# Altium footprint library TiLib.PcbLib: 5 footprints
Each footprint in its own frame and in the unit in brackets; x right, y up, seen from the top. Pads: shape width x height; smd on the part's side, far side on the other; paste and mask are expansions set on the pad; w line width, h text height; cw(c..) or ccw(c..) is an arc to the next point about the centre after c.
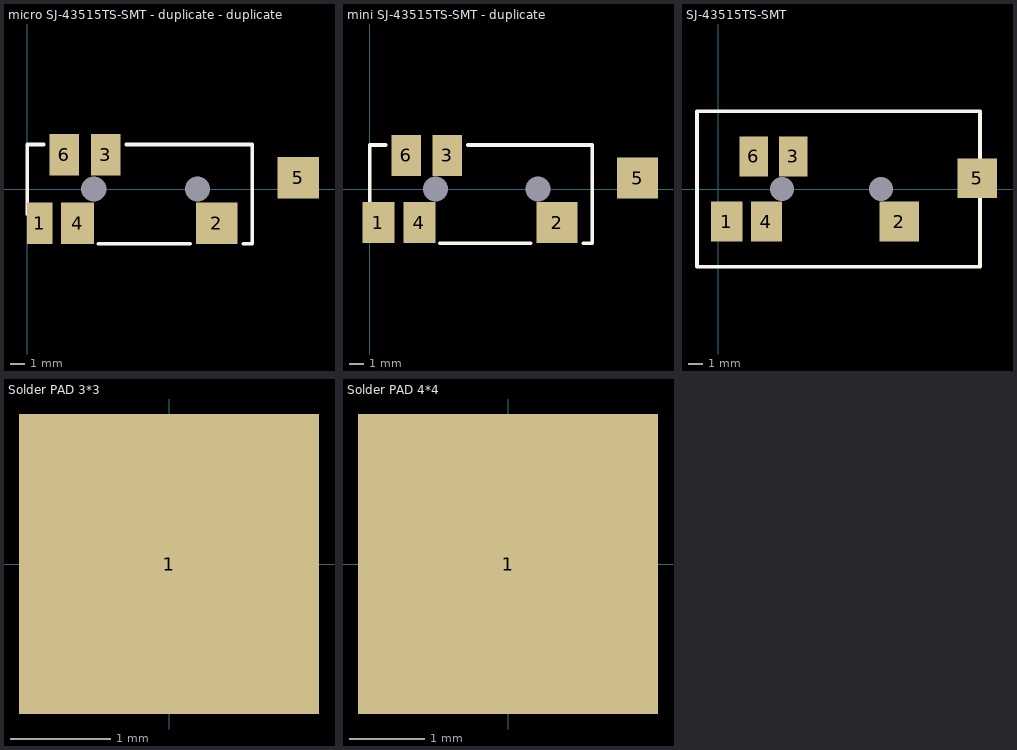
[diagram p0: the footprints below, top view; thin cyan lines are the x and y axes]

## micro SJ-43515TS-SMT - duplicate - duplicate [mm] "3.5mm Jack 4pin"
height 5
pads (8):
  rect 0x0 hole 1.7: 0(4.5,0) 0(11.5,0)
  rect 1.7x2.8 smd: 1(0.85,-2.3)
  rect 2.8x2.8 smd: 2(12.8,-2.3) 5(18.3,0.75)
  rect 2x2.8 smd: 3(5.3,2.3) 6(2.5,2.3)
  rect 2.2x2.8 smd: 4(3.4,-2.3)
Top Overlay:
  lines w0.254: 0,-1.7 0,0 0,2.9 ; 0,3 1.1,3 ; 4.8,-3.7 11,-3.7 ; 6.7,3 15.2,3 15.2,-3.7 14.6,-3.7

## mini SJ-43515TS-SMT - duplicate [mm] "3.5mm Jack 4pin"
height 5
pads (8):
  rect 0x0 hole 1.7: 0(4.5,0) 0(11.5,0)
  rect 2.2x2.8 smd: 1(0.6,-2.3) 4(3.4,-2.3)
  rect 2.8x2.8 smd: 2(12.8,-2.3) 5(18.3,0.75)
  rect 2x2.8 smd: 3(5.3,2.3) 6(2.5,2.3)
Top Overlay:
  lines w0.254: 0,-1.7 0,0 0,2.9 ; 0,3 1.1,3 ; 4.8,-3.7 11,-3.7 ; 6.7,3 15.2,3 15.2,-3.7 14.6,-3.7

## SJ-43515TS-SMT [mm] "3.5mm Jack 4pin"
height 5
pads (8):
  rect 0x0 hole 1.7: 0(4.5,0) 0(11.5,0)
  rect 2.2x2.8 smd: 1(0.6,-2.3) 4(3.4,-2.3)
  rect 2.8x2.8 smd: 2(12.8,-2.3) 5(18.3,0.75)
  rect 2x2.8 smd: 3(5.3,2.3) 6(2.5,2.3)
Top Overlay:
  lines w0.254: -1.5,-5.5 -1.5,0 -1.5,5.5 18.5,5.5 18.5,-5.5 -1.5,-5.5

## Solder PAD 3*3 [mm]
pads (1):
  rect 3x3 smd: 1(0,0)

## Solder PAD 4*4 [mm]
pads (1):
  rect 4x4 smd: 1(0,0)